# Altium footprint library Common-Parts-Library.PcbLib: 530 footprints (part 30 of 34)
Each footprint in its own frame and in the unit in brackets; x right, y up, seen from the top. Pads: shape width x height; smd on the part's side, far side on the other; paste and mask are expansions set on the pad; w line width, h text height; cw(c..) or ccw(c..) is an arc to the next point about the centre after c.
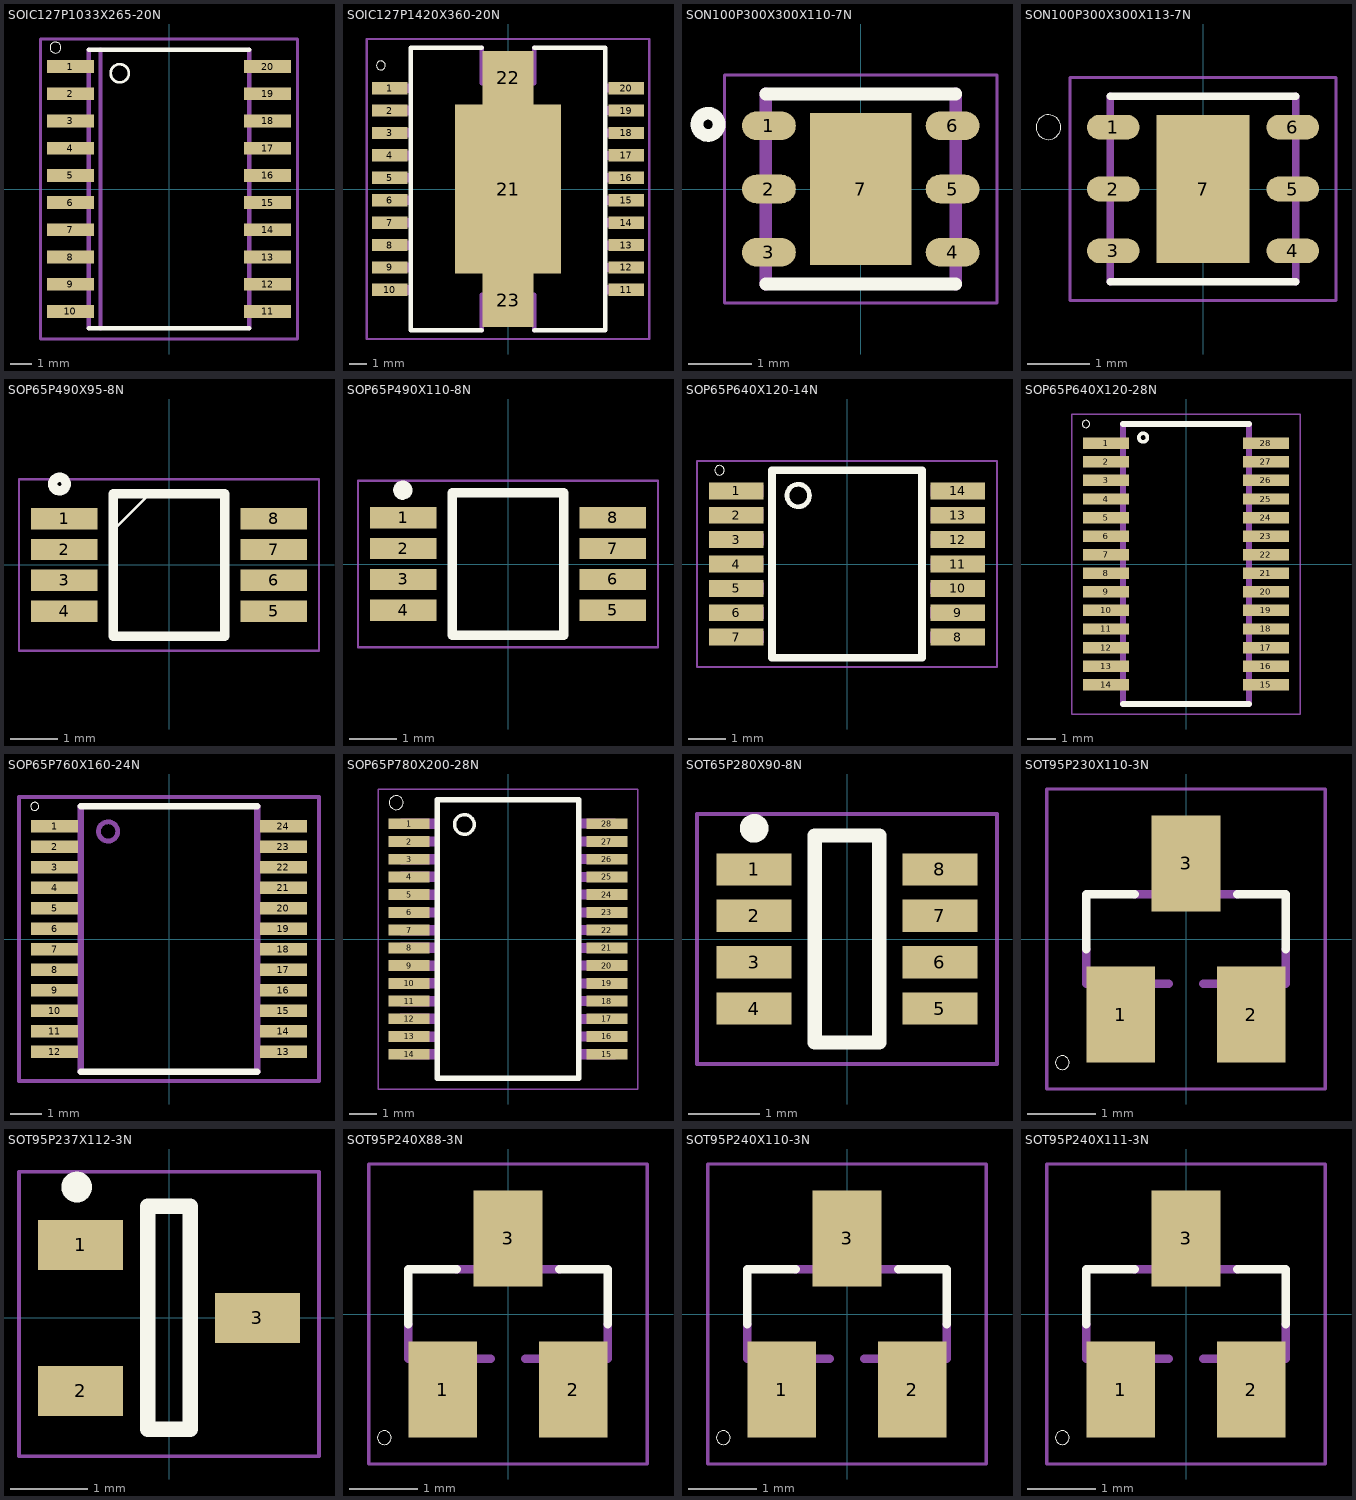
[diagram p29: the footprints below, top view; thin cyan lines are the x and y axes]

## SOIC127P1033X265-20N [mm]
pads (20):
  rect 2.2x0.6 smd: 1(-4.6,5.715) 2(-4.6,4.445) 3(-4.6,3.175) 4(-4.6,1.905) 5(-4.6,0.635) 6(-4.6,-0.635) 7(-4.6,-1.905) 8(-4.6,-3.175) 9(-4.6,-4.445) 10(-4.6,-5.715) 11(4.6,-5.715) 12(4.6,-4.445) 13(4.6,-3.175) 14(4.6,-1.905) 15(4.6,-0.635) 16(4.6,0.635) 17(4.6,1.905) 18(4.6,3.175) 19(4.6,4.445) 20(4.6,5.715)
Top Overlay:
  circle w0.127: c-2.3,5.4 r0.424
  circle w0: c-5.3,6.6 r0.254
  lines w0.203: -3.75,-6.5 3.75,-6.5 ; -3.75,6.5 3.75,6.5
Mechanical 1:
  region: 5.319,5.961 5.319,5.481 3.811,5.481 3.811,5.961
  region: 5.321,4.689 5.321,4.214 3.814,4.214 3.814,4.689
  region: 5.321,3.419 5.321,2.934 3.804,2.934 3.804,3.419
  region: 5.323,2.147 5.323,1.665 3.805,1.665 3.805,2.147
  region: 5.323,0.877 5.323,0.393 3.803,0.393 3.803,0.877
  region: 5.324,-0.394 5.324,-0.878 3.802,-0.878 3.802,-0.394
  region: 5.323,-1.663 5.323,-2.149 3.801,-2.149 3.801,-1.663
  region: 5.33,-2.94 5.33,-3.42 3.801,-3.42 3.801,-2.94
  region: 5.329,-4.209 5.329,-4.691 3.799,-4.691 3.799,-4.209
  region: 5.337,-5.487 5.337,-5.963 3.797,-5.963 3.797,-5.487
  region: -3.799,-5.471 -3.799,-5.97 -5.33,-5.97 -5.33,-5.471
  region: -3.8,-4.2 -3.8,-4.696 -5.326,-4.696 -5.326,-4.2
  region: -3.801,-2.929 -3.801,-3.425 -5.325,-3.425 -5.325,-2.929
  region: -3.801,-1.659 -3.801,-2.152 -5.322,-2.152 -5.322,-1.659
  region: -3.803,-0.387 -3.803,-0.885 -5.325,-0.885 -5.325,-0.387
  region: -3.804,0.884 -3.804,0.386 -5.324,0.386 -5.324,0.884
  region: -3.804,2.154 -3.804,1.657 -5.322,1.657 -5.322,2.154
  region: -3.808,3.428 -3.808,2.927 -5.323,2.927 -5.323,3.428
  region: -3.807,4.697 -3.807,4.199 -5.321,4.199 -5.321,4.697
  region: -3.809,5.969 -3.809,5.47 -5.32,5.47 -5.32,5.969
  lines w0.127: -6,-7 -6,7 6,7 6,-7 -6,-7
  lines w0.203: -3.75,-6.5 -3.75,6.5 ; -3.2,-6.5 -3.2,6.5 ; 3.75,-6.5 3.75,6.5

## SOIC127P1420X360-20N [mm]
pads (23):
  rect 2x0.7 smd: 1(-6.7,5.715) 2(-6.7,4.445) 3(-6.7,3.175) 4(-6.7,1.905) 5(-6.7,0.635) 6(-6.7,-0.635) 7(-6.7,-1.905) 8(-6.7,-3.175) 9(-6.7,-4.445) 10(-6.7,-5.715) 11(6.7,-5.715) 12(6.7,-4.445) 13(6.7,-3.175) 14(6.7,-1.905) 15(6.7,-0.635) 16(6.7,0.635) 17(6.7,1.905) 18(6.7,3.175) 19(6.7,4.445) 20(6.7,5.715)
  rect 6x9.6 smd: 21(0,0)
  rect 2.9x3.05 smd: 22(0,6.3) 23(0,-6.3)
Top Overlay:
  circle w0: c-7.2,7 r0.254
  lines w0.254: -1.5,-8 -5.5,-8 -5.5,8 -1.5,8 ; 1.5,-8 5.5,-8 5.5,8 1.5,8
Top Paste:
  region: -1.901,3 1.9,3 1.9,-3.001 -1.901,-3.001
Mechanical 1:
  circle w0.127: c0,-5 r0.671
  circle w0.127: c0,5 r0.671
  region: 7.088,5.968 7.088,5.471 5.522,5.471 5.522,5.968
  region: 7.087,4.698 7.087,4.194 5.514,4.194 5.514,4.698
  region: 7.089,3.427 7.089,2.926 5.517,2.926 5.517,3.427
  region: 7.093,2.153 7.093,1.66 5.521,1.66 5.521,2.153
  region: 7.091,0.885 7.091,0.385 5.516,0.385 5.516,0.885
  region: 7.093,-0.387 7.093,-0.885 5.516,-0.885 5.516,-0.387
  region: 7.096,-1.66 7.096,-2.156 5.515,-2.156 5.515,-1.66
  region: 7.09,-2.924 7.09,-3.428 5.512,-3.428 5.512,-2.924
  region: 7.103,-4.207 7.103,-4.698 5.513,-4.698 5.513,-4.207
  region: 7.093,-5.467 7.093,-5.969 5.512,-5.969 5.512,-5.467
  region: -5.461,-5.461 -5.461,-5.989 -7.055,-5.989 -7.055,-5.461
  region: -5.463,-4.189 -5.463,-4.717 -7.054,-4.717 -7.054,-4.189
  region: -5.462,-2.92 -5.462,-3.433 -7.04,-3.433 -7.04,-2.92
  region: -5.467,-1.645 -5.467,-2.175 -7.051,-2.175 -7.051,-1.645
  region: -5.47,-0.372 -5.47,-0.903 -7.05,-0.903 -7.05,-0.372
  region: -5.468,0.896 -5.468,0.374 -7.043,0.374 -7.043,0.896
  region: -5.476,2.174 -5.476,1.641 -7.046,1.641 -7.046,2.174
  region: -5.465,3.433 -5.465,2.919 -7.038,2.919 -7.038,3.433
  region: -5.472,4.71 -5.472,4.188 -7.039,4.188 -7.039,4.71
  region: -5.469,5.977 -5.469,5.46 -7.037,5.46 -7.037,5.977
  lines w0.127: -8,-8.5 8,-8.5 8,8.5 -8,8.5 -8,-8.5
  lines w0.254: -1.5,-8 -1.5,-6 1.5,-6 1.5,-8 ; -1.5,8 -1.5,6 1.5,6 1.5,8

## SON100P300X300X110-7N [mm]
pads (7):
  oval 0.85x0.45 smd: 1(-1.45,1) 2(-1.45,0) 3(-1.45,-1) 4(1.45,-1) 5(1.45,0) 6(1.45,1)
  rect 1.6x2.4 smd: 7(0,0)
Top Overlay:
  circle w0.2: c-2.41,1.02 r0.175
  lines w0.2: -1.5,-1.5 1.5,-1.5 ; -1.5,1.5 1.5,1.5
Top Paste:
  region: -0.451,0.85 0.45,0.85 0.45,-0.852 -0.451,-0.852
Mechanical 1:
  lines w0.05: -2.15,-1.8 -2.15,1.8 2.15,1.8 2.15,-1.8 -2.15,-1.8
  lines w0.2: -1.5,-1.5 -1.5,1.5 ; 1.5,-1.5 1.5,1.5

## SON100P300X300X113-7N [mm]
pads (7):
  oval 0.85x0.4 smd: 1(-1.45,1) 2(-1.45,0) 3(-1.45,-1) 4(1.45,-1) 5(1.45,0) 6(1.45,1)
  rect 1.5x2.4 smd: 7(0,0)
Top Overlay:
  circle w0: c-2.5,1 r0.2
  lines w0.127: -1.5,-1.5 1.5,-1.5 ; -1.5,1.5 1.5,1.5
Top Paste:
  region: -0.416,0.865 0.415,0.865 0.415,-0.866 -0.416,-0.866
Mechanical 1:
  lines w0.05: -2.15,-1.8 -2.15,1.8 2.15,1.8 2.15,-1.8 -2.15,-1.8
  lines w0.127: -1.5,-1.5 -1.5,1.5 ; 1.5,-1.5 1.5,1.5

## SOP65P490X95-8N [mm]
pads (8):
  rect 1.4x0.45 smd: 1(-2.2,0.975) 2(-2.2,0.325) 3(-2.2,-0.325) 4(-2.2,-0.975) 5(2.2,-0.975) 6(2.2,-0.325) 7(2.2,0.325) 8(2.2,0.975)
Top Overlay:
  circle w0.2: c-2.3,1.7 r0.141
  lines w0.05: -1.2,0.7 -0.4,1.5 -1.2,1.5
  lines w0.2: -1.175,-1.5 -1.175,1.5 -0.4,1.5 1.175,1.5 1.175,-1.5 -1.175,-1.5
Mechanical 1:
  lines w0.05: -3.15,-1.8 -3.15,1.8 3.15,1.8 3.15,-1.8 -3.15,-1.8

## SOP65P490X110-8N [mm]
pads (8):
  rect 1.4x0.45 smd: 1(-2.2,0.975) 2(-2.2,0.325) 3(-2.2,-0.325) 4(-2.2,-0.975) 5(2.2,-0.975) 6(2.2,-0.325) 7(2.2,0.325) 8(2.2,0.975)
Top Overlay:
  circle w0.05: c-2.21,1.55 r0.178
  circle w0.05: c-2.23,1.57 r0.036
  circle w0.05: c-2.2,1.54 r0.04
  circle w0.05: c-2.21,1.55 r0.058
  circle w0.05: c-2.21,1.55 r0.067
  circle w0.05: c-2.21,1.55 r0.089
  circle w0.05: c-2.21,1.55 r0.108
  circle w0.05: c-2.21,1.55 r0.141
  lines w0.2: -1.175,-1.5 1.175,-1.5 1.175,1.5 -1.175,1.5 -1.175,-1.5
Mechanical 1:
  lines w0.05: -3.15,-1.75 -3.15,1.75 3.15,1.75 3.15,-1.75 -3.15,-1.75

## SOP65P640X120-14N [mm]
pads (14):
  rect 1.45x0.45 smd: 1(-2.95,1.95) 2(-2.95,1.3) 3(-2.95,0.65) 4(-2.95,0) 5(-2.95,-0.65) 6(-2.95,-1.3) 7(-2.95,-1.95) 8(2.95,-1.95) 9(2.95,-1.3) 10(2.95,-0.65) 11(2.95,0) 12(2.95,0.65) 13(2.95,1.3) 14(2.95,1.95)
Top Overlay:
  circle w0: c-3.4,2.5 r0.127
  circle w0.127: c-1.3,1.825 r0.3
  lines w0.203: -2,-2.5 2,-2.5 2,2.5 -2,2.5 -2,-2.5
Mechanical 1:
  region: 2.231,1.806 2.231,2.098 3.202,2.098 3.202,1.806
  region: 2.23,1.155 2.23,1.447 3.203,1.447 3.203,1.155
  region: 2.228,0.503 2.228,0.798 3.202,0.798 3.202,0.503
  region: 2.227,-0.148 2.227,0.147 3.203,0.147 3.203,-0.148
  region: 2.227,-0.798 2.227,-0.504 3.204,-0.504 3.204,-0.798
  region: 2.226,-1.449 2.226,-1.156 3.206,-1.156 3.206,-1.449
  region: 2.225,-2.1 2.225,-1.803 3.203,-1.803 3.203,-2.1
  region: -2.225,-1.8 -2.225,-2.106 -3.206,-2.106 -3.206,-1.8
  region: -2.226,-1.149 -2.226,-1.455 -3.205,-1.455 -3.205,-1.149
  region: -2.226,-0.499 -2.226,-0.803 -3.203,-0.803 -3.203,-0.499
  region: -2.228,0.153 -2.228,-0.154 -3.204,-0.154 -3.204,0.153
  region: -2.226,0.801 -2.226,0.5 -3.2,0.5 -3.2,0.801
  region: -2.229,1.454 -2.229,1.148 -3.202,1.148 -3.202,1.454
  region: -2.228,2.103 -2.228,1.799 -3.201,1.799 -3.201,2.103
  lines w0.05: -4,-2.75 -4,2.75 4,2.75 4,-2.75 -4,-2.75

## SOP65P640X120-28N [mm]
pads (28):
  rect 1.6x0.4 smd: 1(-2.8,4.225) 2(-2.8,3.575) 3(-2.8,2.925) 4(-2.8,2.275) 5(-2.8,1.625) 6(-2.8,0.975) 7(-2.8,0.325) 8(-2.8,-0.325) 9(-2.8,-0.975) 10(-2.8,-1.625) 11(-2.8,-2.275) 12(-2.8,-2.925) 13(-2.8,-3.575) 14(-2.8,-4.225) 15(2.8,-4.225) 16(2.8,-3.575) 17(2.8,-2.925) 18(2.8,-2.275) 19(2.8,-1.625) 20(2.8,-0.975) 21(2.8,-0.325) 22(2.8,0.325) 23(2.8,0.975) 24(2.8,1.625) 25(2.8,2.275) 26(2.8,2.925) 27(2.8,3.575) 28(2.8,4.225)
Top Overlay:
  circle w0: c-3.5,4.9 r0.127
  circle w0.127: c-1.5,4.425 r0.15
  lines w0.203: -2.2,-4.9 2.2,-4.9 ; -2.2,4.9 2.2,4.9
Mechanical 1:
  region: 2.235,4.08 2.235,4.376 3.299,4.376 3.299,4.08
  region: 2.235,3.43 2.235,3.725 3.3,3.725 3.3,3.43
  region: 2.233,2.778 2.233,3.075 3.3,3.075 3.3,2.778
  region: 2.237,2.132 2.237,2.424 3.301,2.424 3.301,2.132
  region: 2.236,1.481 2.236,1.772 3.303,1.772 3.303,1.481
  region: 2.234,0.829 2.234,1.122 3.303,1.122 3.303,0.829
  region: 2.232,0.177 2.232,0.473 3.302,0.473 3.302,0.177
  region: 2.231,-0.474 2.231,-0.177 3.302,-0.177 3.302,-0.474
  region: 2.231,-1.124 2.231,-0.83 3.305,-0.83 3.305,-1.124
  region: 2.231,-1.774 2.231,-1.48 3.306,-1.48 3.306,-1.774
  region: 2.23,-2.425 2.23,-2.129 3.304,-2.129 3.304,-2.425
  region: 2.229,-3.076 2.229,-2.782 3.307,-2.782 3.307,-3.076
  region: 2.229,-3.726 2.229,-3.432 3.307,-3.432 3.307,-3.726
  region: 2.227,-4.378 2.227,-4.086 3.311,-4.086 3.311,-4.378
  region: -2.229,-4.076 -2.229,-4.38 -3.305,-4.38 -3.305,-4.076
  region: -2.228,-3.427 -2.228,-3.736 -3.311,-3.736 -3.311,-3.427
  region: -2.229,-2.776 -2.229,-3.086 -3.311,-3.086 -3.311,-2.776
  region: -2.23,-2.125 -2.23,-2.433 -3.308,-2.433 -3.308,-2.125
  region: -2.231,-1.474 -2.231,-1.781 -3.306,-1.781 -3.306,-1.474
  region: -2.232,-0.823 -2.232,-1.131 -3.306,-1.131 -3.306,-0.823
  region: -2.232,-0.173 -2.232,-0.478 -3.303,-0.478 -3.303,-0.173
  region: -2.235,0.48 -2.235,0.17 -3.305,0.17 -3.305,0.48
  region: -2.232,1.127 -2.232,0.823 -3.302,0.823 -3.302,1.127
  region: -2.232,1.777 -2.232,1.474 -3.301,1.474 -3.301,1.777
  region: -2.234,2.429 -2.234,2.124 -3.301,2.124 -3.301,2.429
  region: -2.239,3.084 -2.239,2.774 -3.301,2.774 -3.301,3.084
  region: -2.239,3.734 -2.239,3.425 -3.3,3.425 -3.3,3.734
  region: -2.233,4.378 -2.233,4.075 -3.3,4.075 -3.3,4.378
  lines w0.05: -4,-5.25 -4,5.25 4,5.25 4,-5.25 -4,-5.25
  lines w0.203: -2.2,-4.9 -2.2,4.9 ; 2.2,-4.9 2.2,4.9

## SOP65P760X160-24N [mm]
pads (24):
  rect 1.5x0.4 smd: 1(-3.625,3.575) 2(-3.625,2.925) 3(-3.625,2.275) 4(-3.625,1.625) 5(-3.625,0.975) 6(-3.625,0.325) 7(-3.625,-0.325) 8(-3.625,-0.975) 9(-3.625,-1.625) 10(-3.625,-2.275) 11(-3.625,-2.925) 12(-3.625,-3.575) 13(3.625,-3.575) 14(3.625,-2.925) 15(3.625,-2.275) 16(3.625,-1.625) 17(3.625,-0.975) 18(3.625,-0.325) 19(3.625,0.325) 20(3.625,0.975) 21(3.625,1.625) 22(3.625,2.275) 23(3.625,2.925) 24(3.625,3.575)
Top Overlay:
  circle w0: c-4.25,4.2 r0.127
  lines w0.203: -2.8,-4.2 2.8,-4.2 ; -2.8,4.2 2.8,4.2
Mechanical 1:
  circle w0.152: c-1.928,3.406 r0.305
  region: 2.805,-2.125 3.8,-2.125 3.8,-2.429 2.805,-2.429
  region: 2.806,1.775 3.8,1.775 3.8,1.478 2.806,1.478
  region: 3.8,-0.476 2.807,-0.476 2.807,-0.175 3.8,-0.175
  region: 3.8,-1.128 2.808,-1.128 2.808,-0.825 3.8,-0.825
  region: 3.8,-1.776 2.802,-1.776 2.802,-1.475 3.8,-1.475
  region: 3.8,-3.081 2.805,-3.081 2.805,-2.775 3.8,-2.775
  region: 3.8,-3.732 2.805,-3.732 2.805,-3.425 3.8,-3.425
  region: 3.8,3.432 2.806,3.432 2.806,3.725 3.8,3.725
  region: 3.8,2.778 2.803,2.778 2.803,3.075 3.8,3.075
  region: 3.8,2.129 2.805,2.129 2.805,2.425 3.8,2.425
  region: 3.8,0.826 2.804,0.826 2.804,1.125 3.8,1.125
  region: 3.8,0.175 2.807,0.175 2.807,0.475 3.8,0.475
  region: -3.809,-3.425 -2.8,-3.425 -2.8,-3.734 -3.809,-3.734
  region: -3.806,-2.775 -2.8,-2.775 -2.8,-3.08 -3.806,-3.08
  region: -3.809,-2.125 -2.8,-2.125 -2.8,-2.431 -3.809,-2.431
  region: -3.802,-1.475 -2.8,-1.475 -2.8,-1.776 -3.802,-1.776
  region: -3.805,-0.825 -2.8,-0.825 -2.8,-1.127 -3.805,-1.127
  region: -3.804,-0.175 -2.8,-0.175 -2.8,-0.476 -3.804,-0.476
  region: -3.806,0.475 -2.8,0.475 -2.8,0.175 -3.806,0.175
  region: -3.811,1.125 -2.8,1.125 -2.8,0.827 -3.811,0.827
  region: -3.804,1.775 -2.8,1.775 -2.8,1.477 -3.804,1.477
  region: -3.808,2.425 -2.8,2.425 -2.8,2.13 -3.808,2.13
  region: -3.802,3.075 -2.8,3.075 -2.8,2.777 -3.802,2.777
  region: -3.808,3.725 -2.8,3.725 -2.8,3.432 -3.808,3.432
  lines w0.127: -4.75,-4.5 -4.75,4.5 4.75,4.5 4.75,-4.5 -4.75,-4.5
  lines w0.203: -2.8,-4.2 -2.8,4.2 ; 2.8,-4.2 2.8,4.2

## SOP65P780X200-28N [mm]
pads (28):
  rect 1.5x0.4 smd: 1(-3.625,4.225) 2(-3.625,3.575) 3(-3.625,2.925) 4(-3.625,2.275) 5(-3.625,1.625) 6(-3.625,0.975) 7(-3.625,0.325) 8(-3.625,-0.325) 9(-3.625,-0.975) 10(-3.625,-1.625) 11(-3.625,-2.275) 12(-3.625,-2.925) 13(-3.625,-3.575) 14(-3.625,-4.225) 15(3.625,-4.225) 16(3.625,-3.575) 17(3.625,-2.925) 18(3.625,-2.275) 19(3.625,-1.625) 20(3.625,-0.975) 21(3.625,-0.325) 22(3.625,0.325) 23(3.625,0.975) 24(3.625,1.625) 25(3.625,2.275) 26(3.625,2.925) 27(3.625,3.575) 28(3.625,4.225)
Top Overlay:
  circle w0.127: c-1.6,4.2 r0.361
  circle w0: c-4.1,5 r0.254
  lines w0.203: -2.6,-5.1 2.6,-5.1 2.6,5.1 -2.6,5.1 -2.6,-5.1
Mechanical 1:
  region: 3.936,4.403 3.936,4.056 2.65,4.056 2.65,4.403
  region: 3.937,3.753 3.937,3.405 2.649,3.405 2.649,3.753
  region: 3.938,3.102 3.938,2.752 2.646,2.752 2.646,3.102
  region: 3.938,2.452 3.938,2.1 2.645,2.1 2.645,2.452
  region: 3.94,1.8 3.94,1.452 2.647,1.452 2.647,1.8
  region: 3.94,1.15 3.94,0.801 2.645,0.801 2.645,1.15
  region: 3.941,0.499 3.941,0.15 2.644,0.15 2.644,0.499
  region: 3.938,-0.149 3.938,-0.502 2.642,-0.502 2.642,-0.149
  region: 3.945,-0.805 3.945,-1.15 2.644,-1.15 2.644,-0.805
  region: 3.944,-1.454 3.944,-1.802 2.643,-1.802 2.643,-1.454
  region: 3.943,-2.103 3.943,-2.453 2.642,-2.453 2.642,-2.103
  region: 3.947,-2.757 3.947,-3.104 2.641,-3.104 2.641,-2.757
  region: 3.948,-3.408 3.948,-3.755 2.64,-3.755 2.64,-3.408
  region: 3.94,-4.05 3.94,-4.404 2.641,-4.404 2.641,-4.05
  region: -2.64,-4.049 -2.64,-4.411 -3.945,-4.411 -3.945,-4.049
  region: -2.641,-3.398 -2.641,-3.759 -3.943,-3.759 -3.943,-3.398
  region: -2.642,-2.747 -2.642,-3.108 -3.942,-3.108 -3.942,-2.747
  region: -2.642,-2.097 -2.642,-2.457 -3.941,-2.457 -3.941,-2.097
  region: -2.642,-1.447 -2.642,-1.806 -3.94,-1.806 -3.94,-1.447
  region: -2.643,-0.796 -2.643,-1.156 -3.94,-1.156 -3.94,-0.796
  region: -2.643,-0.146 -2.643,-0.506 -3.94,-0.506 -3.94,-0.146
  region: -2.644,0.505 -2.644,0.144 -3.94,0.144 -3.94,0.505
  region: -2.644,1.155 -2.644,0.796 -3.939,0.796 -3.939,1.155
  region: -2.643,1.804 -2.643,1.447 -3.938,1.447 -3.938,1.804
  region: -2.649,2.46 -2.649,2.095 -3.94,2.095 -3.94,2.46
  region: -2.646,3.107 -2.646,2.746 -3.938,2.746 -3.938,3.107
  region: -2.647,3.758 -2.647,3.397 -3.937,3.397 -3.937,3.758
  region: -2.647,4.409 -2.647,4.047 -3.937,4.047 -3.937,4.409
  lines w0.05: -4.75,-5.5 -4.75,5.5 4.75,5.5 4.75,-5.5 -4.75,-5.5

## SOT65P280X90-8N [mm]
pads (8):
  rect 1.05x0.45 smd: 1(-1.3,0.975) 2(-1.3,0.325) 3(-1.3,-0.325) 4(-1.3,-0.975) 5(1.3,-0.975) 6(1.3,-0.325) 7(1.3,0.325) 8(1.3,0.975)
Top Overlay:
  circle w0.2: c-1.3,1.55 r0.1
  lines w0.2: -0.45,-1.45 -0.45,1.45 0.45,1.45 0.45,-1.45 -0.45,-1.45
Mechanical 1:
  lines w0.05: -2.1,-1.75 -2.1,1.75 2.1,1.75 2.1,-1.75 -2.1,-1.75

## SOT95P230X110-3N [mm]
pads (3):
  rect 1x1.4 smd: 1(-0.95,-1.1) 2(0.95,-1.1) 3(0,1.1)
Top Overlay:
  circle w0: c-1.8,-1.8 r0.1
  lines w0.127: -1.45,-0.15 -1.45,0.65 -0.75,0.65 ; 0.75,0.65 1.45,0.65 1.45,-0.15
Mechanical 1:
  region: -1.171,-0.711 -0.711,-0.711 -0.711,-1.299 -1.171,-1.299
  region: 0.712,-0.711 1.168,-0.711 1.168,-1.298 0.712,-1.298
  region: -0.229,1.295 0.229,1.295 0.229,0.713 -0.229,0.713
  lines w0.051: -2.023,-2.183 -2.023,2.183 2.023,2.183 2.023,-2.183 -2.023,-2.183
  lines w0.127: -1.45,-0.15 -1.45,-0.65 -0.25,-0.65 ; -0.75,0.65 0.75,0.65 ; 0.25,-0.65 1.45,-0.65 1.45,-0.15

## SOT95P237X112-3N [mm]
pads (3):
  rect 1.1x0.65 smd: 1(-1.15,0.95) 2(-1.15,-0.95) 3(1.15,0)
Top Overlay:
  circle w0.2: c-1.2,1.7 r0.1
  lines w0.2: -0.275,-1.45 -0.275,1.45 0.275,1.45 0.275,-1.45 -0.275,-1.45
Mechanical 1:
  lines w0.05: -1.95,-1.8 -1.95,1.9 1.95,1.9 1.95,-1.8 -1.95,-1.8

## SOT95P240X88-3N [mm]
pads (3):
  rect 1x1.4 smd: 1(-0.95,-1.1) 2(0.95,-1.1) 3(0,1.1)
Top Overlay:
  circle w0: c-1.8,-1.8 r0.1
  lines w0.127: -1.45,-0.15 -1.45,0.65 -0.75,0.65 ; 0.75,0.65 1.45,0.65 1.45,-0.15
Mechanical 1:
  region: -1.172,-0.711 -0.711,-0.711 -0.711,-1.3 -1.172,-1.3
  region: 0.711,-0.711 1.168,-0.711 1.168,-1.296 0.711,-1.296
  region: -0.229,1.295 0.229,1.295 0.229,0.712 -0.229,0.712
  lines w0.051: -2.023,-2.183 -2.023,2.183 2.023,2.183 2.023,-2.183 -2.023,-2.183
  lines w0.127: -1.45,-0.15 -1.45,-0.65 -0.25,-0.65 ; -0.75,0.65 0.75,0.65 ; 0.25,-0.65 1.45,-0.65 1.45,-0.15

## SOT95P240X110-3N [mm]
pads (3):
  rect 1x1.4 smd: 1(-0.95,-1.1) 2(0.95,-1.1) 3(0,1.1)
Top Overlay:
  circle w0: c-1.8,-1.8 r0.1
  lines w0.127: -1.45,-0.15 -1.45,0.65 -0.75,0.65 ; 0.75,0.65 1.45,0.65 1.45,-0.15
Mechanical 1:
  region: -1.17,-0.711 -0.711,-0.711 -0.711,-1.298 -1.17,-1.298
  region: 0.713,-0.711 1.168,-0.711 1.168,-1.299 0.713,-1.299
  region: -0.229,1.295 0.229,1.295 0.229,0.712 -0.229,0.712
  lines w0.051: -2.023,-2.183 -2.023,2.183 2.023,2.183 2.023,-2.183 -2.023,-2.183
  lines w0.127: -1.45,-0.15 -1.45,-0.65 -0.25,-0.65 ; -0.75,0.65 0.75,0.65 ; 0.25,-0.65 1.45,-0.65 1.45,-0.15

## SOT95P240X111-3N [mm]
pads (3):
  rect 1x1.4 smd: 1(-0.95,-1.1) 2(0.95,-1.1) 3(0,1.1)
Top Overlay:
  circle w0: c-1.8,-1.8 r0.1
  lines w0.127: -1.45,-0.15 -1.45,0.65 -0.75,0.65 ; 0.75,0.65 1.45,0.65 1.45,-0.15
Mechanical 1:
  region: -1.17,-0.711 -0.711,-0.711 -0.711,-1.298 -1.17,-1.298
  region: 0.714,-0.711 1.168,-0.711 1.168,-1.3 0.714,-1.3
  region: -0.229,1.295 0.229,1.295 0.229,0.713 -0.229,0.713
  lines w0.051: -2.023,-2.183 -2.023,2.183 2.023,2.183 2.023,-2.183 -2.023,-2.183
  lines w0.127: -1.45,-0.15 -1.45,-0.65 -0.25,-0.65 ; -0.75,0.65 0.75,0.65 ; 0.25,-0.65 1.45,-0.65 1.45,-0.15